# Altium footprint library Desk lamp PCB库.PcbLib: 5 footprints
Each footprint in its own frame and in the unit in brackets; x right, y up, seen from the top. Pads: shape width x height; smd on the part's side, far side on the other; paste and mask are expansions set on the pad; w line width, h text height; cw(c..) or ccw(c..) is an arc to the next point about the centre after c.
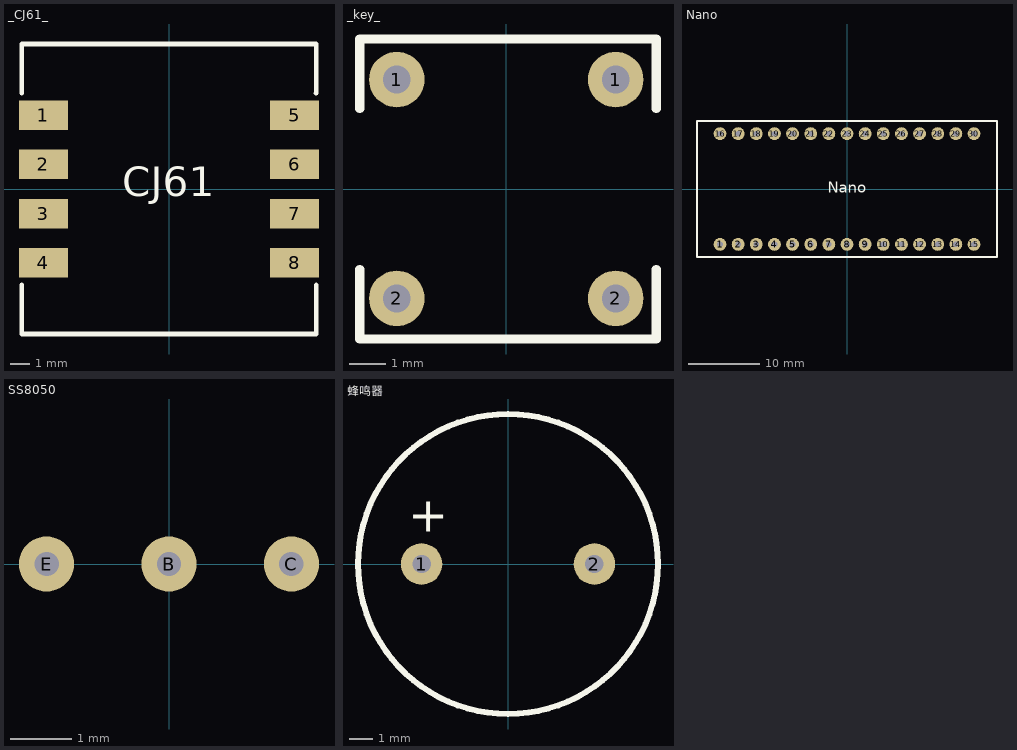
[diagram p0: the footprints below, top view; thin cyan lines are the x and y axes]

## _CJ61_ [mm]
height 4
pads (8):
  rect 2.524x1.524 smd: 1(-6.5,3.81) 2(-6.5,1.27) 3(-6.5,-1.27) 4(-6.5,-3.81) 5(6.5,3.81) 6(6.5,1.27) 7(6.5,-1.27) 8(6.5,-3.81)
Top Overlay:
  lines w0.254: -7.62,-4.953 -7.62,-7.5 0,-7.5 7.613,-7.5 7.62,-7.493 7.62,-4.96 ; -7.62,4.953 -7.62,7.5 0,7.5 7.613,7.5 7.62,7.493 7.62,4.96 7.613,4.953
  text "CJ61" at -2.413,-0.381 h1.52

## _key_ [mil]
height 275.59
pads (4):
  round 60 hole 30: 1(-118.11,118.11) 1(118.11,118.11) 2(-118.11,-118.11) 2(118.11,-118.11)
Top Overlay:
  lines w10: -158.11,-86.89 -158.11,-161.89 161.89,-161.89 161.89,-86.89 ; -158.11,86.89 -158.11,161.89 -148.11,161.89 161.89,161.89 161.89,86.89

## Nano [mm]
height 20
pads (30):
  round 1.8 hole 0.8: 1(-17.78,-7.75) 2(-15.24,-7.75) 3(-12.7,-7.75) 4(-10.16,-7.75) 5(-7.62,-7.75) 6(-5.08,-7.75) 7(-2.54,-7.75) 8(0,-7.75) 9(2.54,-7.75) 10(5.08,-7.75) 11(7.62,-7.75) 12(10.16,-7.75) 13(12.7,-7.75) 14(15.24,-7.75) 15(17.78,-7.75) 16(-17.78,7.75) 17(-15.24,7.75) 18(-12.7,7.75) 19(-10.16,7.75) 20(-7.62,7.75) 21(-5.08,7.75) 22(-2.54,7.75) 23(0,7.75) 24(2.54,7.75) 25(5.08,7.75) 26(7.62,7.75) 27(10.16,7.75) 28(12.7,7.75) 29(15.24,7.75) 30(17.78,7.75)
Top Overlay:
  lines w0.254: -21,-9.5 -21,0 -21,9.5 21,9.5 21,-9.5 -21,-9.5
  text "Nano" at -2.667,-0.508 h1.52

## SS8050 [mm]
height 10
pads (3):
  round 0.9 hole 0.4: B(0,0) C(2,0) E(-2,0)

## 蜂鸣器 [mm]
height 10
pads (2):
  round 1.8 hole 0.8: 1(-3.746,0) 2(3.746,0)
Top Overlay:
  circle w0.254: c0,0 r6.5
  text "+" at -4.318,1.397 h1.52